# EAGLE library part ADG1634BRUZ (library custom_parts)
4.5 Ù RON, Triple/Quad SPDT ±5 V, +12 V, +5 V, and +3.3 V Switches
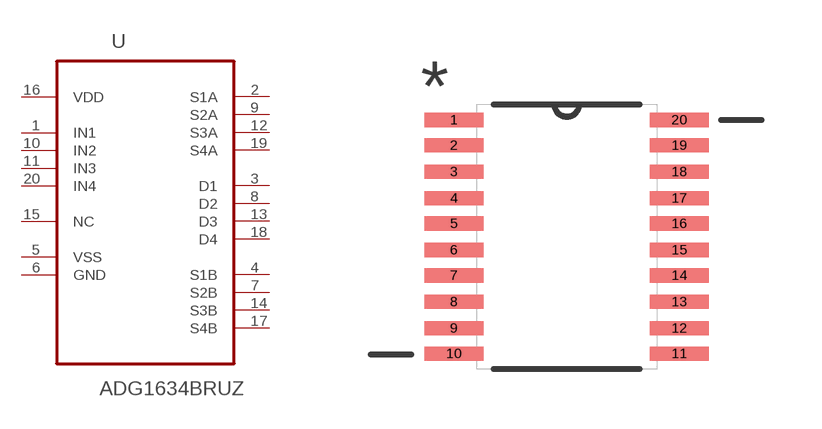
[diagram p23: symbol with the pads of SOP65P640X120-20N; footprint SOP65P640X120-20N]

Designator prefix U

## ADG1634BRUZ (MPN: ADG1634BRUZ; OC_FARNELL: 1858058; OC_NEWARK: 26R2422; PACKAGE: TSSOP-20; SUPPLIER: Analog Devices)  [SOP65P640X120-20N]
1  IN1  in
2  S1A  out
3  D1  out
4  S1B  out
5  VSS  pwr
6  GND  pas
7  S2B  out
8  D2  out
9  S2A  out
10  IN2  in
11  IN3  in
12  S3A  out
13  D3  out
14  S3B  out
15  NC  nc
16  VDD  pwr
17  S4B  out
18  D4  out
19  S4A  out
20  IN4  in

## Footprint SOP65P640X120-20N (pad centres in mm)
smd 1.473 x 0.356: 1 -2.819,2.921; 2 -2.819,2.286; 3 -2.819,1.626; 4 -2.819,0.965; 5 -2.819,0.33; 6 -2.819,-0.33; 7 -2.819,-0.965; 8 -2.819,-1.626; 9 -2.819,-2.286; 10 -2.819,-2.921; 11 2.819,-2.921; 12 2.819,-2.286; 13 2.819,-1.626; 14 2.819,-0.965; 15 2.819,-0.33; 16 2.819,0.33; 17 2.819,0.965; 18 2.819,1.626; 19 2.819,2.286; 20 2.819,2.921